# EAGLE library part MINI50-12 (library lib_stankus)
Molex Mini50-12 Farnell #2376580
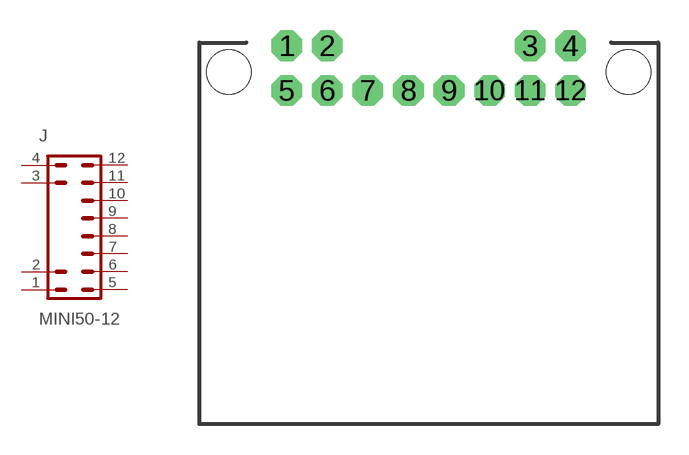
[diagram p102: symbol with the pads of MINI50-12; footprint MINI50-12]

Designator prefix J

## MINI50-12  [MINI50-12]
1  1  pas
2  2  pas
3  3  pas
4  4  pas
5  5  pas
6  6  pas
7  7  pas
8  8  pas
9  9  pas
10  10  pas
11  11  pas
12  12  pas

## Footprint MINI50-12 (pad centres in mm)
MINI50-12
drill 1 octagon: 1 -7,2.2; 2 -5,2.2; 3 5,2.2; 4 7,2.2; 5 -7,0; 6 -5,0; 7 -3,0; 8 -1,0; 9 1,0; 10 3,0; 11 5,0; 12 7,0
hole 2.2 at -9.85,0.9
hole 2.2 at 9.85,0.9